# EAGLE library part IV-27M_LEFT (library Russian-VFD-tubes)
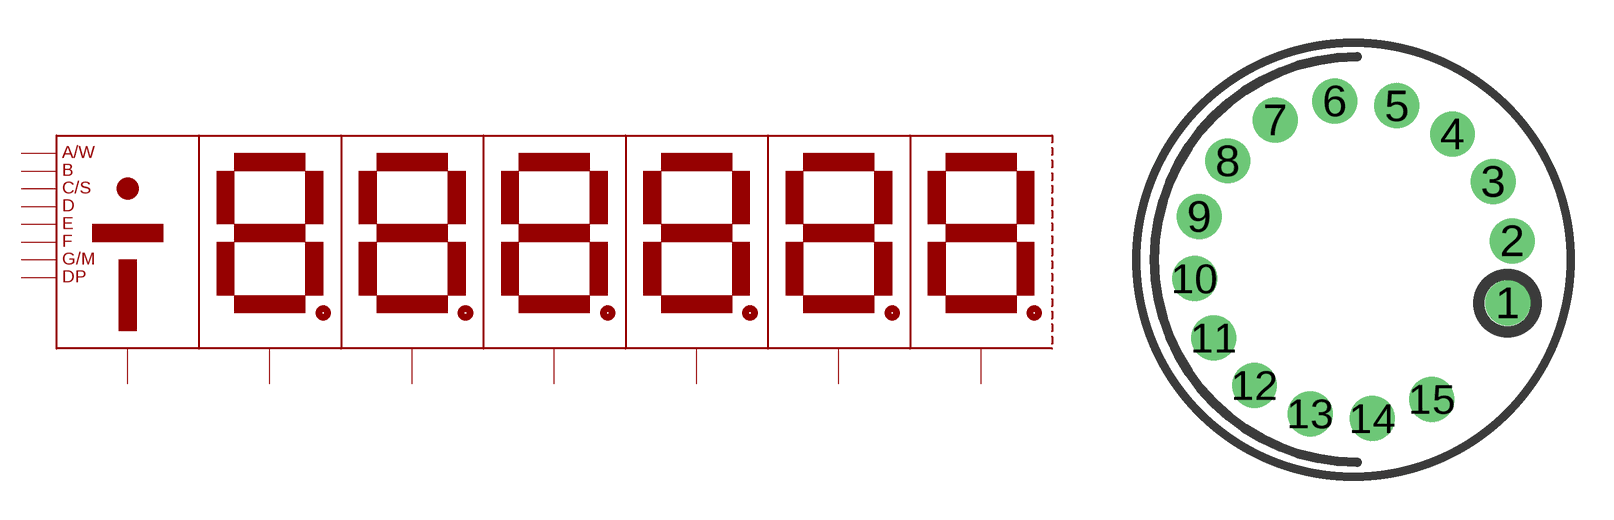
[diagram p7: symbol with the pads of IV-27M_LEFT; footprint IV-27M_LEFT]

Designator prefix -

## IV-27M_LEFT  [IV-27M_LEFT]
1  GRID_8
2  GRID_9
3  GRID_10
4  GRID_11
5  GRID_12
6  A/W
7  F
8  B
9  G/M
10  E
11  C/S
12  D
13  DP
14  GRID_14
15  GRID_13

## Footprint IV-27M_LEFT (pad centres in mm)
IV-27M_LEFT
drill 1.05: 1 5.517,-1.654; 2 5.686,0.527; 3 5.008,2.607; 4 3.586,4.27; 5 1.635,5.262; 6 -0.546,5.431; 7 -2.626,4.753; 8 -4.289,3.331; 9 -5.281,1.381; 10 -5.45,-0.801; 11 -4.772,-2.881; 12 -3.35,-4.544; 13 -1.4,-5.535; 14 0.782,-5.705; 15 2.862,-5.027